# Altium footprint library resistor.PcbLib: 1 footprints
Each footprint in its own frame and in the unit in brackets; x right, y up, seen from the top. Pads: shape width x height; smd on the part's side, far side on the other; paste and mask are expansions set on the pad; w line width, h text height; cw(c..) or ccw(c..) is an arc to the next point about the centre after c.
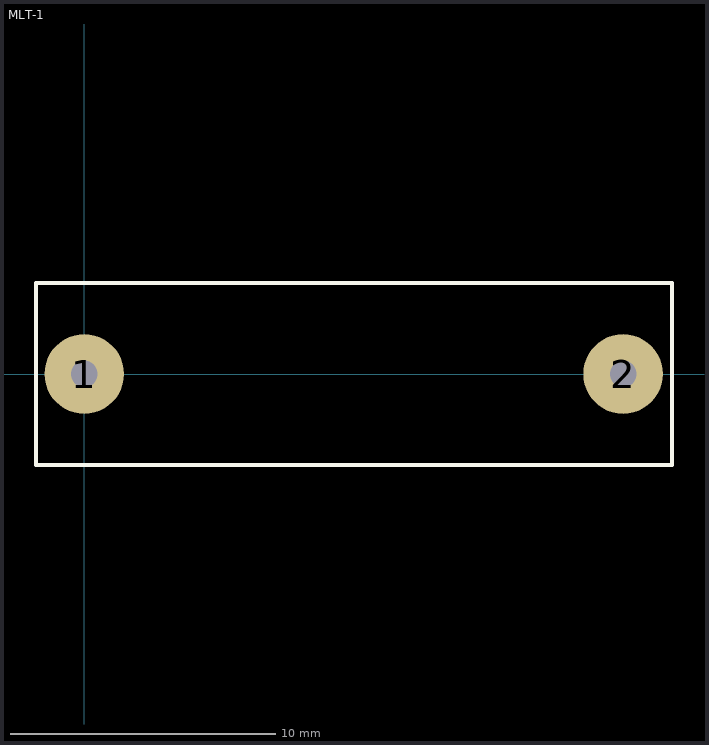
[diagram p0: the footprint, top view; thin cyan lines are the x and y axes]

## MLT-1 [mm]
pads (2):
  round 3 hole 1: 1(0,0) 2(20.3,0)
Top Overlay:
  lines w0.15: -1.825,-3.425 22.15,-3.425 22.15,3.425 -1.825,3.425 -1.825,-3.425
3D body "User Library-res_1watt_20,3mm.STEP": height 6.7, standoff -2.1, extent -0.4,-3.2 20.7,3.2